# Altium schematic symbol library LED0805.Schlib: 1 symbol
Pins are listed as number, name and electrical type; pins without a type are passive.

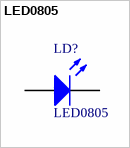
[diagram p0: symbol LED0805]

## LED0805
designator LD?
Surface Mount Chip LED, Red
footprint LED0805(2012) (Chip Resistor, Body 2.0x1.3mm, IPC Medium Density)
pins: 1 K, 2 A